# Altium footprint library 10118192.PcbLib: 1 footprints
Each footprint in its own frame and in the unit in brackets; x right, y up, seen from the top. Pads: shape width x height; smd on the part's side, far side on the other; paste and mask are expansions set on the pad; w line width, h text height; cw(c..) or ccw(c..) is an arc to the next point about the centre after c.
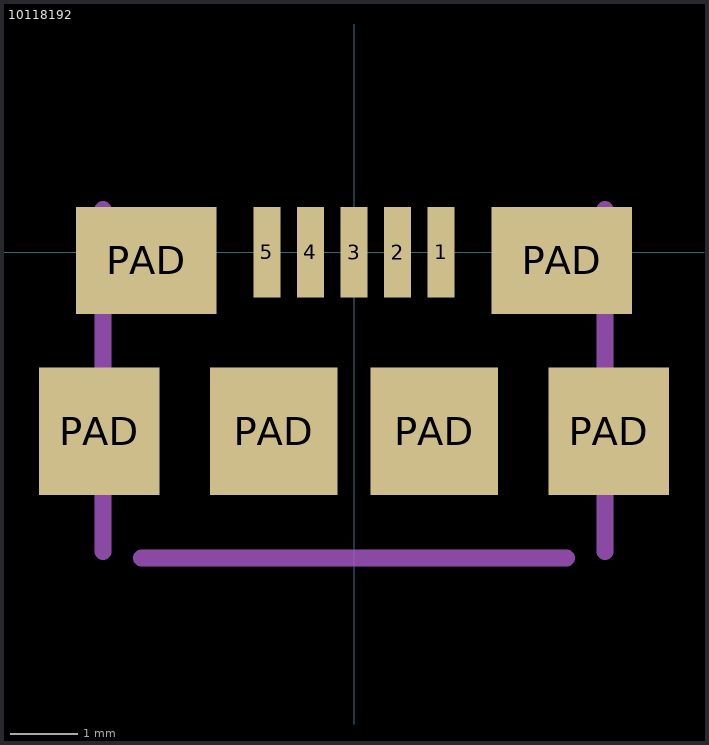
[diagram p0: the footprint, top view; thin cyan lines are the x and y axes]

## 10118192 [mm] "USB Micro B Type Receptacle"
pads (11):
  rect 0.4x1.35 smd: 1(1.3,0) 2(0.65,0) 3(0,0) 4(-0.65,0) 5(-1.3,0)
  rect 1.8x1.9 smd: PAD(-3.8,-2.675) PAD(3.8,-2.675)
  rect 2.1x1.6 smd: PAD(-3.1,-0.125) PAD(3.1,-0.125)
  rect 1.9x1.9 smd: PAD(-1.2,-2.675) PAD(1.2,-2.675)
Mechanical 15:
  lines w0.254: -3.75,-4.47 -3.75,0.635 ; -3.175,-4.566 3.175,-4.566 ; 3.75,-4.47 3.75,0.635